# EAGLE library part ATTINY45/85 (library bt_avr)
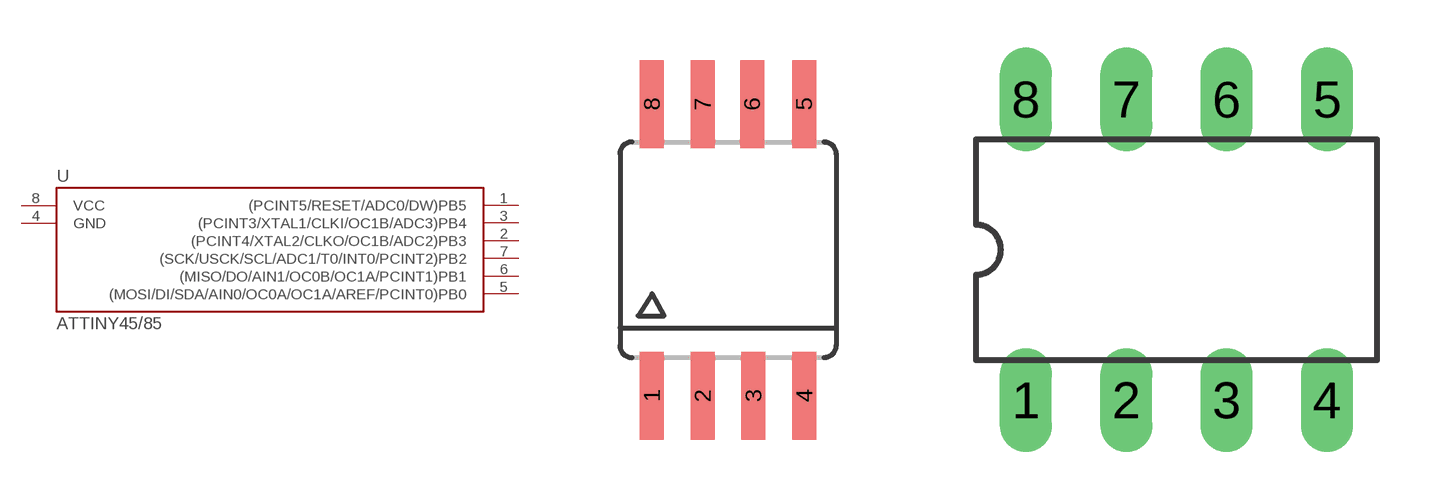
[diagram p7: symbol with the pads of SOIC8W; footprints SOIC8W, DIL08]

Designator prefix -

## ATTINY45/85-SU  [SOIC8W]
1  (PCINT5/RESET/ADC0/DW)PB5
2  (PCINT4/XTAL2/CLKO/OC1B/ADC2)PB3
3  (PCINT3/XTAL1/CLKI/OC1B/ADC3)PB4
4  GND  pwr
5  (MOSI/DI/SDA/AIN0/OC0A/OC1A/AREF/PCINT0)PB0
6  (MISO/DO/AIN1/OC0B/OC1A/PCINT1)PB1
7  (SCK/USCK/SCL/ADC1/T0/INT0/PCINT2)PB2
8  VCC  pwr

## ATTINY45/85-MU  [DIL08]
Pads as for SOIC8W

## ATTINY45/85-PU  [DIL08]
Pads as for SOIC8W

## Footprint SOIC8W (pad centres in mm)
smd 0.6 x 2.2: 1 -1.905,-3.65; 2 -0.635,-3.65; 3 0.635,-3.65; 4 1.905,-3.65; 5 1.9,3.65; 6 0.6,3.65; 7 -0.635,3.65; 8 -1.905,3.65

## Footprint DIL08 (pad centres in mm)
Dual In Line
drill 0.813 long: 1 -3.81,-3.81; 2 -1.27,-3.81; 3 1.27,-3.81; 4 3.81,-3.81; 5 3.81,3.81; 6 1.27,3.81; 7 -1.27,3.81; 8 -3.81,3.81